# Altium footprint library TruthEar.PcbLib: 17 footprints (part 1 of 2)
Each footprint in its own frame and in the unit in brackets; x right, y up, seen from the top. Pads: shape width x height; smd on the part's side, far side on the other; paste and mask are expansions set on the pad; w line width, h text height; cw(c..) or ccw(c..) is an arc to the next point about the centre after c.
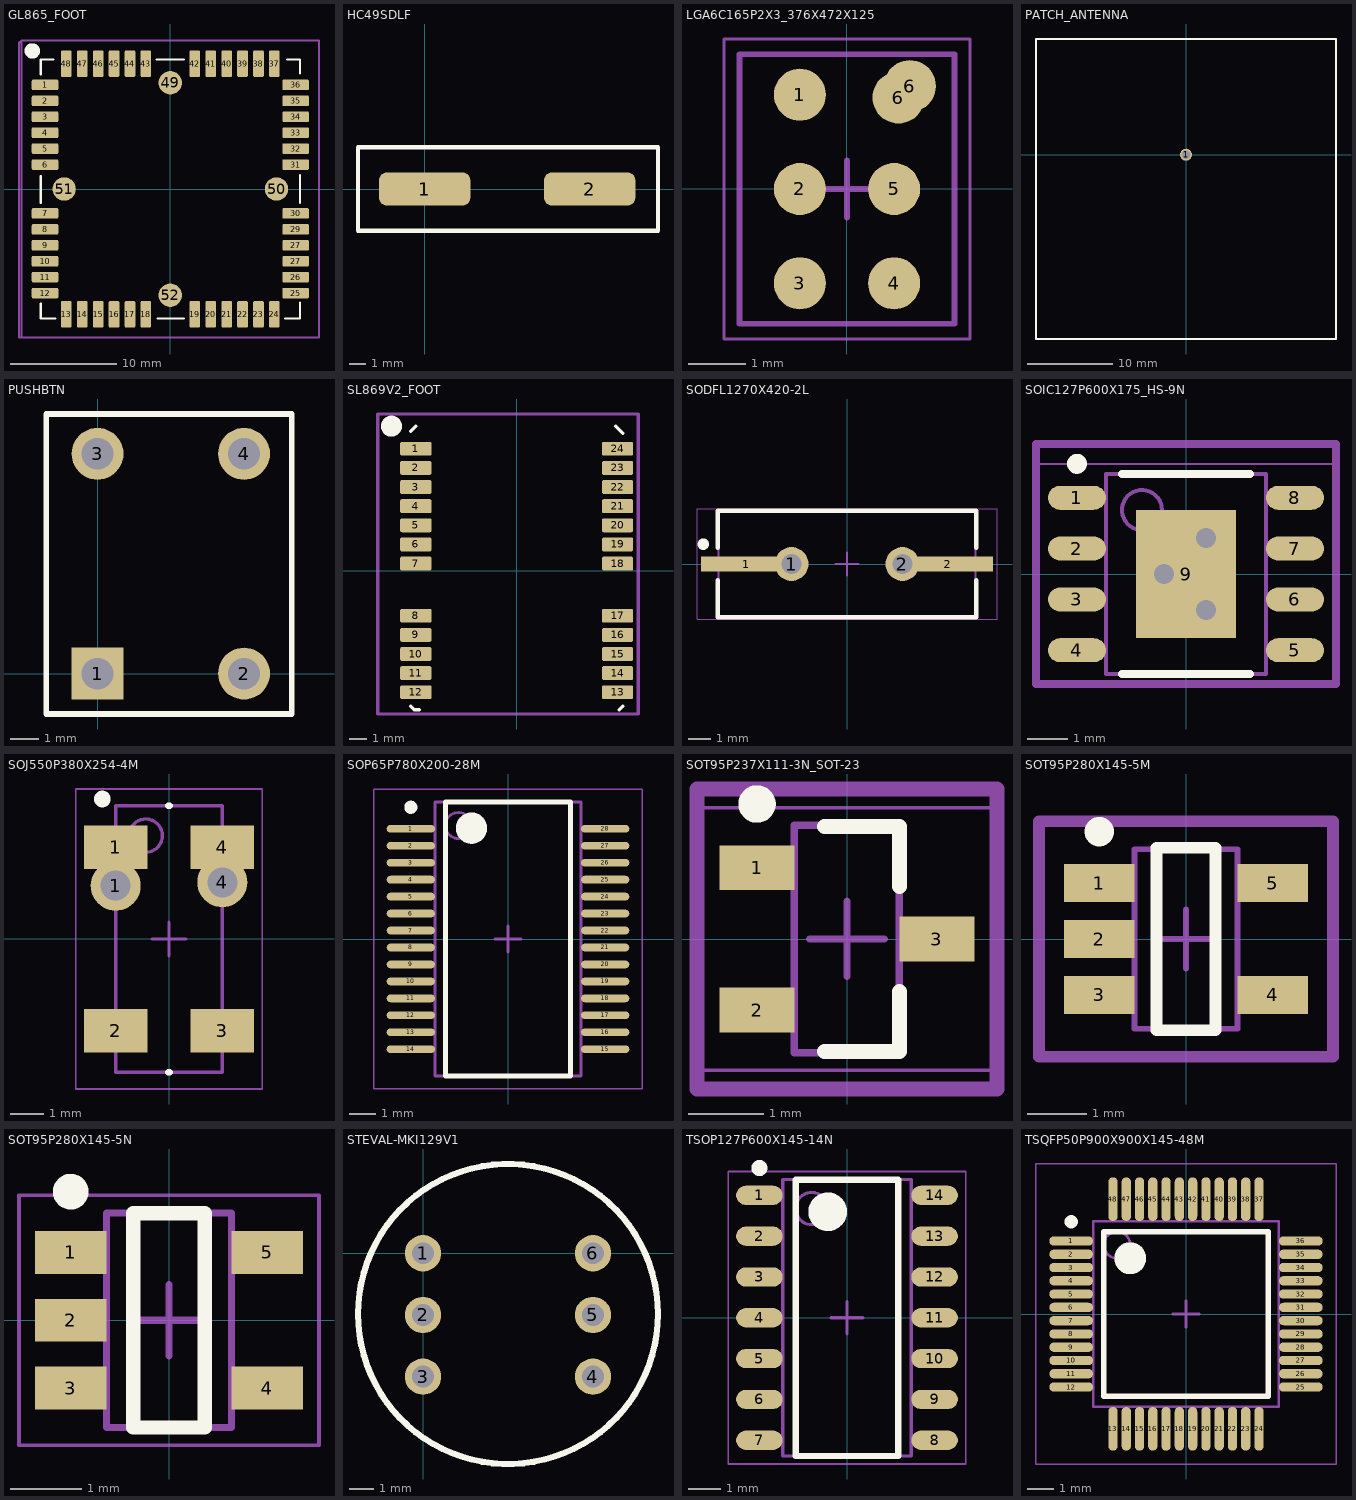
[diagram p0: the footprints below, top view; thin cyan lines are the x and y axes]

## GL865_FOOT [mm]
pads (52):
  rrect25% 2.5x1 smd: 1(-11.8,9.8) 2(-11.8,8.3) 3(-11.8,6.8) 4(-11.8,5.3) 5(-11.8,3.8) 6(-11.8,2.3) 7(-11.8,-2.3) 8(-11.8,-3.8) 9(-11.8,-5.3) 10(-11.8,-6.8) 11(-11.8,-8.3) 12(-11.8,-9.8) 25(11.8,-9.8) 26(11.8,-8.3) 27(11.8,-6.8) 27(11.8,-5.3) 29(11.8,-3.8) 30(11.8,-2.3) 31(11.8,2.3) 32(11.8,3.8) 33(11.8,5.3) 34(11.8,6.8) 35(11.8,8.3) 36(11.8,9.8)
  rrect25% 1x2.5 smd: 13(-9.8,-11.8) 14(-8.3,-11.8) 15(-6.8,-11.8) 16(-5.3,-11.8) 17(-3.8,-11.8) 18(-2.3,-11.8) 19(2.3,-11.8) 20(3.8,-11.8) 21(5.3,-11.8) 22(6.8,-11.8) 23(8.3,-11.8) 24(9.8,-11.8) 37(9.8,11.8) 38(8.3,11.8) 39(6.8,11.8) 40(5.3,11.8) 41(3.8,11.8) 42(2.3,11.8) 43(-2.3,11.8) 44(-3.8,11.8) 45(-5.3,11.8) 46(-6.8,11.8) 47(-8.3,11.8) 48(-9.8,11.8)
  round 2.2 smd: 49(0,10) 50(10,0) 51(-10,0) 52(0,-10)
Top Overlay:
  circle w1: c-13,13 r0.224
  lines w0.2: -12.2,-10.8 -12.2,-12.2 -10.8,-12.2 ; -12.2,-1.3 -12.2,1.2 ; -12.2,10.8 -12.2,12.2 -11,12.2 ; -1.3,12.2 1.3,12.2 ; -1.2,-12.2 1.3,-12.2 ; 10.8,-12.2 12.2,-12.2 12.2,-10.7 ; 11,12.2 12.2,12.2 12.2,10.9 ; 12.2,-1.3 12.2,1.3
Mechanical 15:
  lines w0.2: -14,-14 -14,14 14,14 14,-14 -14,-14
Mechanical 29:
  lines w0.2: -14.25,-14 -14.25,13.75 -14,14 14,14 14,-14 -14.25,-14
  text ".Comment" at -8.75,3.5 h0.8
3D body "GL865.STEP": height 2.9, standoff 0.1, extent -12.2,-12.2 12.2,12.2

## HC49SDLF [mm]
pads (2):
  rrect50% 5.5x2 smd: 1(0,0) 2(9.9,0)
Top Overlay:
  lines w0.254: -4,-2.5 14,-2.5 14,2.5 -4,2.5 -4,-2.5

## LGA6C165P2X3_376X472X125 [mm] "LGA, 6-Leads, Body 3,76x4,72mmx1,25mm, Pitch 1,65mm"
height 1.25
pads (7):
  round 0.91 smd: 1(-0.825,1.65) 2(-0.825,0) 3(-0.825,-1.65) 4(0.825,-1.65) 5(0.825,0) 6(0.9,1.6) 6(1.1,1.8)
Mechanical 13:
  lines w0.1: -1.88,-2.36 1.88,-2.36 1.88,2.36 -1.88,2.36 -1.88,-2.36
Mechanical 15:
  lines w0.05: -2.15,-2.625 2.15,-2.625 2.15,2.625 -2.15,2.625 -2.15,-2.625
  lines w0.1: -0.5,0 0.5,0 ; 0,-0.5 0,0.5
3D body "LGA6C165P2X3_376X472X125.step": height 1.25, standoff 0, extent -1.905,-2.385 1.905,2.385

## PATCH_ANTENNA [mm] "1 pin"
pads (1):
  round 1.4 hole 1: 1(0,0)
Top Overlay:
  lines w0.2: -17.5,-21.5 17.5,-21.5 17.5,13.5 -17.5,13.5 -17.5,-21.5
Mechanical 29:
  lines w0.2: -17.5,-21.5 -17.5,13.5 17.5,13.5 17.5,-21.5 -17.5,-21.5
  text ".Comment" at 0.5,3.5 h0.8

## PUSHBTN [mm]
pads (4):
  rect 1.8x1.8 hole 1.1: 1(0,0)
  round 1.8 hole 1.1: 2(5.08,0) 3(0,7.62) 4(5.08,7.62)
Top Overlay:
  lines w0.2: -1.778,-1.4 -1.778,9 -0.906,9 6.731,9 6.731,-1.4 -1.778,-1.4

## SL869V2_FOOT [mm]
pads (24):
  rrect25% 1.8x0.8 smd: 1(-5.8,7) 2(-5.8,5.9) 3(-5.8,4.8) 4(-5.8,3.7) 5(-5.8,2.6) 6(-5.8,1.5) 7(-5.8,0.4) 8(-5.8,-2.6) 9(-5.8,-3.7) 10(-5.8,-4.8) 11(-5.8,-5.9) 12(-5.8,-7) 13(5.8,-7) 14(5.8,-5.9) 15(5.8,-4.8) 16(5.8,-3.7) 17(5.8,-2.6) 18(5.8,0.4) 19(5.8,1.5) 20(5.8,2.6) 21(5.8,3.7) 22(5.8,4.8) 23(5.8,5.9) 24(5.8,7)
Top Overlay:
  circle w1: c-7.2,8.3 r0.1
  lines w0.2: -6.1,-7.8 -5.9,-8 -5.6,-8 ; -6.1,8 -5.8,8.3 ; 5.7,8.3 6.1,7.9 ; 5.9,-8 6.1,-7.8
Mechanical 29:
  lines w0.2: -8,-8.25 7,-8.25 7,9 -8,9 -8,-8 -8,-8.25
  text ".Comment" at -4.25,3.25 h0.8
3D body "SL869V2.STEP": height -0.45, standoff -3.1, extent -6.1,-8 6.1,8

## SODFL1270X420-2L [mm] "SODFL, 2-Leads, Body 4,70x12,70mm, IPC High Density"
height 4.2
pads (4):
  rect 4x0.65 smd: 1(-4.45,0) 2(4.45,0)
  round 1.5 hole 0.9: 1(-2.45,0) 2(2.45,0)
Top Overlay:
  circle w0.25: c-6.35,0.875 r0.125
  lines w0.2: -5.7,-0.725 -5.7,-2.35 5.7,-2.35 5.7,-0.725 ; -5.7,0.725 -5.7,2.35 5.7,2.35 5.7,0.725
Mechanical 13:
  lines w0.1: -5.675,-2.35 -5.675,2.35 5.675,2.35 5.675,-2.35 -5.675,-2.35
Mechanical 15:
  lines w0.05: -6.625,-2.45 -6.625,2.45 6.625,2.45 6.625,-2.45 -6.625,-2.45
  lines w0.1: -0.5,0 0.5,0 ; 0,-0.5 0,0.5
3D body "SODFL1270X420-2L.step": height 4.2, standoff 0, extent -6.35,-2.35 6.35,2.35

## SOIC127P600X175_HS-9N [mm] "SOIC, 8-Leads, Body 4.90x3.90mm, Pitch 1.27mm, Thermal Pad 3.20x2.51mm, IPC Medium Density"
height 1.75
pads (9):
  oval 1.45x0.6 smd: 1(-2.725,1.905) 2(-2.725,0.635) 3(-2.725,-0.635) 4(-2.725,-1.905) 5(2.725,-1.905) 6(2.725,-0.635) 7(2.725,0.635) 8(2.725,1.905)
  rect 2.51x3.2 smd: 9(0,0)
via 0.5,0.9 diameter 1 hole 0.5
via 0.5,-0.9 diameter 1 hole 0.5
via -0.55,0 diameter 1 hole 0.5
Top Overlay:
  circle w0.25: c-2.725,2.755 r0.125
  lines w0.2: -1.6,-2.5 1.6,-2.5 ; -1.6,2.5 1.6,2.5
Mechanical 13:
  circle w0.1: c-1.1,1.6 r0.5
  lines w0.1: -2,-2.5 -2,2.5 2,2.5 2,-2.5 -2,-2.5
Mechanical 15:
  lines w0.05: -3.7,-2.75 -3.7,2.75 3.7,2.75 3.7,-2.75 -3.7,-2.75
  lines w0.1: -0.5,0 0.5,0 ; 0,-0.5 0,0.5
Mechanical 29:
  lines w0.2: -3.75,-2.75 3.75,-2.75 3.75,3.25 -3.75,3.25 -3.75,-2.75
  text ".Comment" at -3.5,0 h0.8
3D body: height 1.75, standoff 0.25, extent -2,-2.5 2,2.5

## SOJ550P380X254-4M [mm] "SOJ, 4-Leads, Body 8,00x3,80mm, Pitch 5,50mm, IPC Low Density"
height 2.54
pads (6):
  round 1.5 hole 0.9: 1(-1.6,1.6) 4(1.6,1.7)
  rect 1.9x1.3 smd: 1(-1.6,2.75) 2(-1.6,-2.75) 3(1.6,-2.75) 4(1.6,2.75)
Top Overlay:
  circle w0.25: c-2,4.2 r0.125
  lines w0.2: -0.025,-4 0.025,-4 ; -0.025,4 0.025,4
Mechanical 13:
  circle w0.1: c-0.7,3.1 r0.5
  lines w0.1: -1.6,-4 1.6,-4 1.6,4 -1.6,4 -1.6,-4
Mechanical 15:
  lines w0.05: -2.8,-4.5 2.8,-4.5 2.8,4.5 -2.8,4.5 -2.8,-4.5
  lines w0.1: -0.5,0 0.5,0 ; 0,-0.5 0,0.5
3D body "SOJ550P380X254-4M.step": height 2.54, standoff 0, extent -2.1,-4 2.1,4

## SOP65P780X200-28M [mm] "SOP, 28-Leads, Body 10,30x5,30mm, Pitch 0,65mm, IPC Low Density"
height 2
pads (28):
  oval 1.85x0.3 smd: 1(-3.725,4.225) 2(-3.725,3.575) 3(-3.725,2.925) 4(-3.725,2.275) 5(-3.725,1.625) 6(-3.725,0.975) 7(-3.725,0.325) 8(-3.725,-0.325) 9(-3.725,-0.975) 10(-3.725,-1.625) 11(-3.725,-2.275) 12(-3.725,-2.925) 13(-3.725,-3.575) 14(-3.725,-4.225) 15(3.725,-4.225) 16(3.725,-3.575) 17(3.725,-2.925) 18(3.725,-2.275) 19(3.725,-1.625) 20(3.725,-0.975) 21(3.725,-0.325) 22(3.725,0.325) 23(3.725,0.975) 24(3.725,1.625) 25(3.725,2.275) 26(3.725,2.925) 27(3.725,3.575) 28(3.725,4.225)
Top Overlay:
  circle w0.25: c-3.725,5.05 r0.125
  circle w0.6: c-1.4,4.25 r0.3
  lines w0.2: -2.4,-5.25 -2.4,5.25 2.4,5.25 2.4,-5.25 -2.4,-5.25
Mechanical 13:
  circle w0.1: c-1.9,4.35 r0.5
  lines w0.1: -2.8,-5.25 -2.8,5.25 2.8,5.25 2.8,-5.25 -2.8,-5.25
Mechanical 15:
  lines w0.05: -5.15,-5.75 -5.15,5.75 5.15,5.75 5.15,-5.75 -5.15,-5.75
  lines w0.1: -0.5,0 0.5,0 ; 0,-0.5 0,0.5
3D body "SOP65P780X200-28M.step": height 2, standoff 0, extent -3.9,-5.25 3.9,5.25

## SOT95P237X111-3N_SOT-23 [mm] "SOT23, 3-Leads, Body 2.92x2.37mm, Pitch 0.95mm, IPC Medium Density"
height 1.11
pads (3):
  rect 1x0.6 smd: 1(-1.2,0.95) 2(-1.2,-0.95) 3(1.2,0)
Top Overlay:
  circle w0.25: c-1.2,1.8 r0.125
  lines w0.2: -0.3,-1.5 0.7,-1.5 0.7,-0.7 ; -0.3,1.5 0.7,1.5 0.7,0.7
Mechanical 13:
  lines w0.1: -0.7,-1.52 0.7,-1.52 0.7,1.52 -0.7,1.52 -0.7,-1.52
Mechanical 15:
  lines w0.05: -1.925,-1.75 1.925,-1.75 1.925,1.75 -1.925,1.75 -1.925,-1.75
  lines w0.1: -0.5,0 0.5,0 ; 0,-0.5 0,0.5
Mechanical 29:
  lines w0.2: -2,-2 -2,2 2,2 2,-2 -2,-2
  text ".Comment" at -0.5,2 h0.8
3D body: height 1.11, standoff 0.1, extent -0.7,-1.52 0.7,1.52

## SOT95P280X145-5M [mm] "SOT23, 5-Leads, Body 2,90x2,80mm, Pitch 0,95mm, IPC Low Density"
height 1.45
pads (5):
  rect 1.2x0.65 smd: 1(-1.475,0.95) 2(-1.475,0) 3(-1.475,-0.95) 4(1.475,-0.95) 5(1.475,0.95)
Top Overlay:
  circle w0.25: c-1.475,1.825 r0.125
  lines w0.2: -0.5,-1.55 0.5,-1.55 0.5,1.55 -0.5,1.55 -0.5,-1.55
Mechanical 13:
  lines w0.1: -0.875,-1.525 -0.875,1.525 0.875,1.525 0.875,-1.525 -0.875,-1.525
Mechanical 15:
  lines w0.05: -2.55,-2.05 -2.55,2.05 2.55,2.05 2.55,-2.05 -2.55,-2.05
  lines w0.1: -0.5,0 0.5,0 ; 0,-0.5 0,0.5
Mechanical 29:
  lines w0.2: -2.5,-2 2.5,-2 2.5,2 -2.5,2 -2.5,-2
  text ".Comment" at -2.5,-0.5 h0.8
3D body: height 1.45, standoff 0.15, extent -0.875,-1.525 0.875,1.525

## SOT95P280X145-5N [mm] "SOT23, 5-Leads, Body 2,90x2,80mm, Pitch 0,95mm, IPC Medium Density"
height 1.45
pads (5):
  rect 1x0.6 smd: 1(-1.375,0.95) 2(-1.375,0) 3(-1.375,-0.95) 4(1.375,-0.95) 5(1.375,0.95)
Top Overlay:
  circle w0.25: c-1.375,1.8 r0.125
  lines w0.2: -0.5,-1.5 0.5,-1.5 0.5,1.5 -0.5,1.5 -0.5,-1.5
Mechanical 13:
  lines w0.1: -0.875,-1.5 -0.875,1.5 0.875,1.5 0.875,-1.5 -0.875,-1.5
Mechanical 15:
  lines w0.05: -2.1,-1.75 -2.1,1.75 2.1,1.75 2.1,-1.75 -2.1,-1.75
  lines w0.1: -0.5,0 0.5,0 ; 0,-0.5 0,0.5
3D body "SOT95P280X145-5N.step": height 1.45, standoff 0, extent -1.6,-1.5 1.6,1.5

## STEVAL-MKI129V1 [mm] "Microphone Board"
pads (6):
  round 1.5 hole 0.9: 1(0,0) 2(0,-2.54) 3(0,-5.08) 4(7,-5.08) 5(7,-2.54) 6(7,0)
Top Overlay:
  circle w0.254: c3.5,-2.5 r6.177

## TSOP127P600X145-14N [mm] "TSOP, 14-Leads, Body 8,65x3,90mm, Pitch 1,27mm, IPC Medium Density"
height 1.45
pads (14):
  oval 1.45x0.6 smd: 1(-2.725,3.81) 2(-2.725,2.54) 3(-2.725,1.27) 4(-2.725,0) 5(-2.725,-1.27) 6(-2.725,-2.54) 7(-2.725,-3.81) 8(2.725,-3.81) 9(2.725,-2.54) 10(2.725,-1.27) 11(2.725,0) 12(2.725,1.27) 13(2.725,2.54) 14(2.725,3.81)
Top Overlay:
  circle w0.6: c-0.6,3.3 r0.3
  circle w0.25: c-2.725,4.66 r0.125
  lines w0.2: -1.6,-4.3 1.6,-4.3 1.6,4.3 -1.6,4.3 -1.6,-4.3
Mechanical 13:
  circle w0.1: c-1.1,3.4 r0.5
  lines w0.1: -2,-4.3 2,-4.3 2,4.3 -2,4.3 -2,-4.3
Mechanical 15:
  lines w0.05: -3.7,-4.55 3.7,-4.55 3.7,4.55 -3.7,4.55 -3.7,-4.55
  lines w0.1: -0.5,0 0.5,0 ; 0,-0.5 0,0.5
3D body "TSOP127P600X145-14N.step": height 1.45, standoff 0, extent -3,-4.3 3,4.3

## TSQFP50P900X900X145-48M [mm] "TSQFP, 48-Leads, Body 7,00x7,00mm, Pitch 0,50mm, IPC Low Density"
height 1.45
pads (48):
  oval 1.65x0.35 smd: 1(-4.325,2.75) 2(-4.325,2.25) 3(-4.325,1.75) 4(-4.325,1.25) 5(-4.325,0.75) 6(-4.325,0.25) 7(-4.325,-0.25) 8(-4.325,-0.75) 9(-4.325,-1.25) 10(-4.325,-1.75) 11(-4.325,-2.25) 12(-4.325,-2.75) 25(4.325,-2.75) 26(4.325,-2.25) 27(4.325,-1.75) 28(4.325,-1.25) 29(4.325,-0.75) 30(4.325,-0.25) 31(4.325,0.25) 32(4.325,0.75) 33(4.325,1.25) 34(4.325,1.75) 35(4.325,2.25) 36(4.325,2.75)
  oval 0.35x1.65 smd: 13(-2.75,-4.325) 14(-2.25,-4.325) 15(-1.75,-4.325) 16(-1.25,-4.325) 17(-0.75,-4.325) 18(-0.25,-4.325) 19(0.25,-4.325) 20(0.75,-4.325) 21(1.25,-4.325) 22(1.75,-4.325) 23(2.25,-4.325) 24(2.75,-4.325) 37(2.75,4.325) 38(2.25,4.325) 39(1.75,4.325) 40(1.25,4.325) 41(0.75,4.325) 42(0.25,4.325) 43(-0.25,4.325) 44(-0.75,4.325) 45(-1.25,4.325) 46(-1.75,4.325) 47(-2.25,4.325) 48(-2.75,4.325)
Top Overlay:
  circle w0.25: c-4.325,3.475 r0.125
  circle w0.6: c-2.1,2.1 r0.3
  lines w0.2: -3.1,-3.1 -3.1,3.1 3.1,3.1 3.1,-3.1 -3.1,-3.1
Mechanical 13:
  circle w0.1: c-2.6,2.6 r0.5
  lines w0.1: -3.5,-3.5 -3.5,3.5 3.5,3.5 3.5,-3.5 -3.5,-3.5
Mechanical 15:
  lines w0.05: -5.65,-5.65 -5.65,5.65 5.65,5.65 5.65,-5.65 -5.65,-5.65
  lines w0.1: -0.5,0 0.5,0 ; 0,-0.5 0,0.5
3D body "TSQFP50P900X900X145-48M.step": height 1.45, standoff 0, extent -4.5,-4.5 4.5,4.5